# EAGLE library part 623X0821021 (library Eagle_BOARD-TO-BOARD_CONNECTORS (rev18b))
WR-PHD 1.27mm Dual SMT Socket Header H=4.50mm, 8 Pins=>Code : Con_BTB_SHD_1.27_2_623x0821021(Packaging:x = 0: Tube x = 3: Tape & Reel with Cap) <http://katalog.we-online.de/media/thumbs2/eican/thb_Con_BTB_SHD_1.27_2_6230xx21021_pf2.jpg> 6230xx21021 Details see: http://katalog.we-online.de/en/em/PHD_1_27_SMT_DUAL_SOCKET_HEADER_6230XX21021 6233xx21021 Details see: http://katalog.we-online.de/en/em/PHD_1_27_SMT_DUAL_SOCKET_HEADER_REEL_6233XX21021 2014 (C) Würth Elektronik
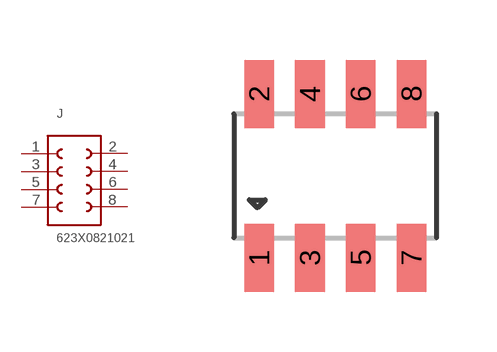
[diagram p294: symbol with the pads of 623X0821021; footprint 623X0821021]

Designator prefix J

## 623X0821021  [623X0821021]
1  1  pas
2  8  pas
3  2  pas
4  7  pas
5  3  pas
6  6  pas
7  4  pas
8  5  pas

## Footprint 623X0821021 (pad centres in mm)
WR-PHD 1.27mm Dual SMT Socket Header H=4.50mm, 8 Pins
smd 0.74 x 1.7: 1 -1.905,-2.05; 2 -1.905,2.05; 3 -0.635,-2.05; 4 -0.635,2.05; 5 0.635,-2.05; 6 0.635,2.05; 7 1.905,-2.05; 8 1.905,2.05